# Altium footprint library транзисторы_полевые.PcbLib: 8 footprints
Each footprint in its own frame and in the unit in brackets; x right, y up, seen from the top. Pads: shape width x height; smd on the part's side, far side on the other; paste and mask are expansions set on the pad; w line width, h text height; cw(c..) or ccw(c..) is an arc to the next point about the centre after c.
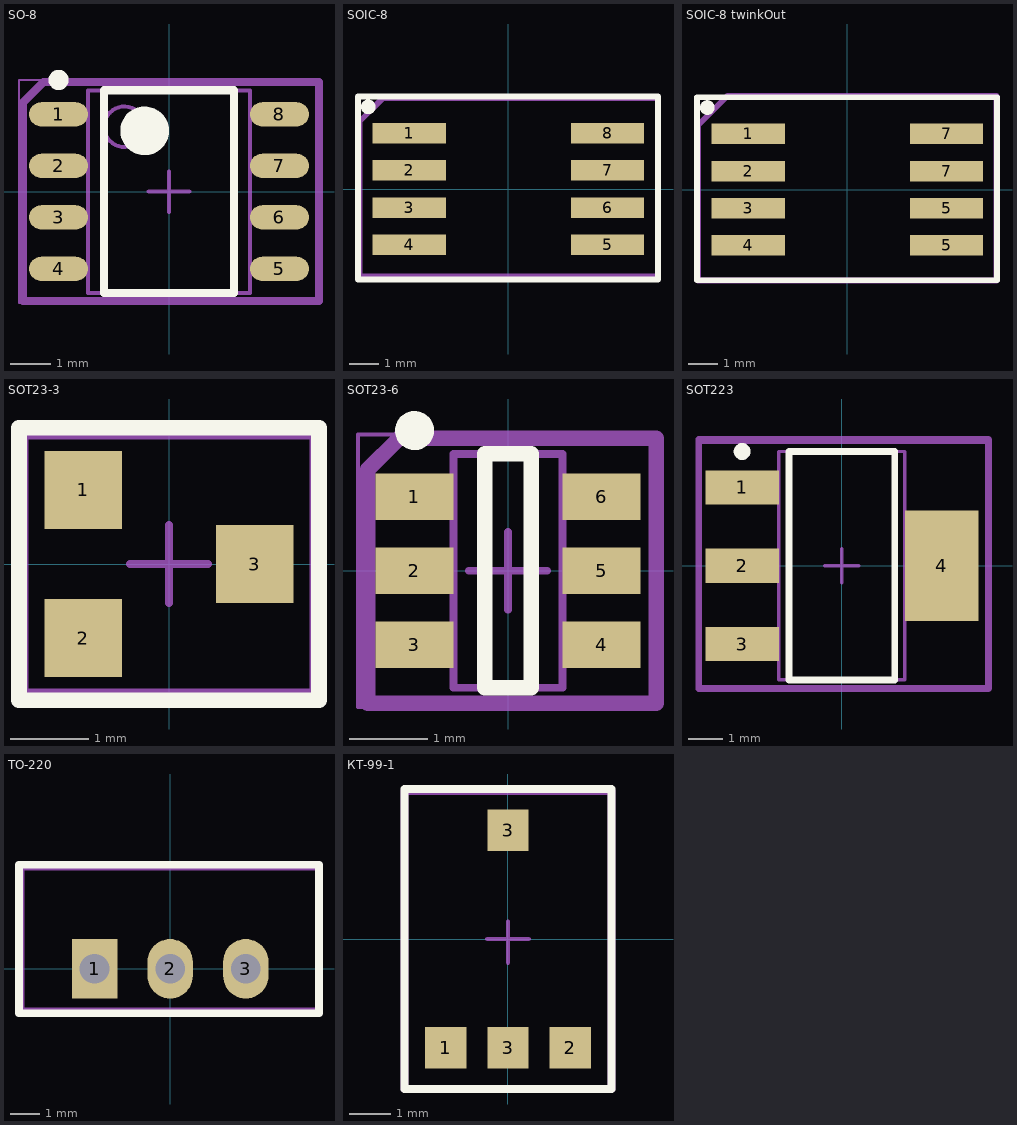
[diagram p0: the footprints below, top view; thin cyan lines are the x and y axes]

## SO-8 [mm]
height 1.75
pads (8):
  oval 1.45x0.6 smd: 1(-2.725,1.905) 2(-2.725,0.635) 3(-2.725,-0.635) 4(-2.725,-1.905) 5(2.725,-1.905) 6(2.725,-0.635) 7(2.725,0.635) 8(2.725,1.905)
Top Overlay:
  circle w0.6: c-0.6,1.5 r0.3
  circle w0.25: c-2.725,2.755 r0.125
  lines w0.2: -1.6,-2.5 1.6,-2.5 1.6,2.5 -1.6,2.5 -1.6,-2.5
Top Assy:
  lines w0.2: -3.6,-2.7 3.7,-2.7 3.7,2.7 -3.1,2.7 -3.6,2.2 -3.6,-2.7
  text ".Designator" at -3.1,-0.5 h1.52
Mechanical 13:
  circle w0.1: c-1.1,1.6 r0.5
  lines w0.1: -2,-2.5 2,-2.5 2,2.5 -2,2.5 -2,-2.5
Mechanical 15:
  lines w0.05: -3.7,-2.75 3.7,-2.75 3.7,2.75 -3.7,2.75 -3.7,-2.75
  lines w0.1: -0.5,0 0.5,0 ; 0,-0.5 0,0.5
3D body "SO-8.step": height 1.45, standoff 0, extent -2.889,-2.5 2.889,2.402

## SOIC-8 [mm] "Только для мосфет"
pads (8):
  rect 2.5x0.7 smd: 1(-3.387,1.905) 2(-3.387,0.635) 3(-3.387,-0.635) 4(-3.387,-1.905) 5(3.388,-1.905) 6(3.388,-0.635) 7(3.388,0.635) 8(3.388,1.905)
Top Overlay:
  circle w0.25: c-4.787,2.805 r0.125
  lines w0.2: -5.137,-3.095 -5.137,3.155 5.113,3.155 5.113,-3.095 -5.137,-3.095
Top Assy:
  lines w0.2: -5.087,-2.995 -5.087,2.305 -4.287,3.105 5.113,3.105 5.113,-2.995 -5.087,-2.995
  text ".Designator" at -3.587,-0.395 h1.52
3D body "SOIC-8.STEP": height 1.75, standoff -0.01, extent -4.062,-2.72 4.039,2.74

## SOIC-8 twinkOut [mm] "Только для мосфет"
pads (8):
  rect 2.5x0.7 smd: 1(-3.387,1.905) 2(-3.387,0.635) 3(-3.387,-0.635) 4(-3.387,-1.905) 5(3.388,-1.905) 5(3.388,-0.635) 7(3.388,0.635) 7(3.388,1.905)
Top Overlay:
  circle w0.25: c-4.787,2.805 r0.125
  lines w0.2: -5.137,-3.095 5.113,-3.095 5.113,3.155 -5.137,3.155 -5.137,-3.095
Top Assy:
  lines w0.2: -5.1,-3.1 -5.1,2.2 -4.1,3.2 5.1,3.2 5.1,-3.1 -5.1,-3.1
  text ".Designator" at -3.9,-0.5 h1.52
3D body "SOIC-8.STEP": height 1.75, standoff -0.01, extent -4.062,-2.72 4.039,2.74

## SOT23-3 [mm]
pads (3):
  rect 1x1 smd: 1(-1.1,0.95) 2(-1.1,-0.95) 3(1.1,0)
Top Overlay:
  lines w0.2: -1.925,-1.75 -1.925,1.75 1.925,1.75 1.925,-1.75 -1.925,-1.75
Top Assy:
  lines w0.2: -1.9,-1.7 1.9,-1.7 1.9,1.7 -1.9,1.7 -1.9,-1.7
  text ".Designator" at -1.5,-0.4 h1.52
Mechanical 15:
  lines w0.1: -0.5,0 0.5,0 ; 0,-0.5 0,0.5
3D body "SOT23-3.STEP": height 1.05, standoff -0.05, extent -1.25,-1.5 1.25,1.5

## SOT23-6 [mm] "SOT23, 6-Leads, Body 2,90x2,45mm, Pitch 0,95mm, IPC Medium Density"
height 1.1
pads (6):
  rect 1x0.6 smd: 1(-1.2,0.95) 2(-1.2,0) 3(-1.2,-0.95) 4(1.2,-0.95) 5(1.2,0) 6(1.2,0.95)
Top Overlay:
  circle w0.25: c-1.2,1.8 r0.125
  lines w0.2: -0.3,-1.5 0.3,-1.5 0.3,1.5 -0.3,1.5 -0.3,-1.5
Top Assy:
  lines w0.2: -1.8,-1.7 1.9,-1.7 1.9,1.7 -1.4,1.7 -1.8,1.3 -1.8,-1.7
  text ".Designator" at -1.4,-1.3 h1.52
Mechanical 13:
  lines w0.1: -0.7,-1.5 -0.7,1.5 0.7,1.5 0.7,-1.5 -0.7,-1.5
Mechanical 15:
  lines w0.05: -1.925,-1.75 -1.925,1.75 1.925,1.75 1.925,-1.75 -1.925,-1.75
  lines w0.1: -0.5,0 0.5,0 ; 0,-0.5 0,0.5
3D body "SOT23-6.step": height 1.1, standoff 0, extent -1.3,-1.5 1.3,1.5

## SOT223 [mm] "SOT223, 4-Leads, Body 6,50x7,00mm (avg), Pitch 2,30mm, IPC Medium Density"
height 1.8
pads (4):
  rect 2.15x1 smd: 1(-2.925,2.3) 2(-2.925,0) 3(-2.925,-2.3)
  rect 2.15x3.25 smd: 4(2.925,0)
Top Overlay:
  circle w0.25: c-2.925,3.35 r0.125
  lines w0.2: -1.55,-3.35 1.55,-3.35 1.55,3.35 -1.55,3.35 -1.55,-3.35
Top Assy:
  lines w0.2: -4.2,-3.6 -4.2,3.7 4.3,3.7 4.3,-3.6 -4.2,-3.6
  text ".Designator" at -2.9,0.1 h1.52
Mechanical 13:
  lines w0.1: -1.85,-3.35 1.85,-3.35 1.85,3.35 -1.85,3.35 -1.85,-3.35
Mechanical 15:
  lines w0.05: -4.25,-3.6 4.25,-3.6 4.25,3.6 -4.25,3.6 -4.25,-3.6
  lines w0.1: -0.5,0 0.5,0 ; 0,-0.5 0,0.5
3D body "SOT-223.STEP": height 1.7, standoff 0.02, extent -3.58,-3.25 3.38,3.25

## TO-220 [mm]
pads (3):
  rect 1.524x2 hole 1: 1(-2.54,0)
  oval 1.524x2 hole 1: 2(0,0) 3(2.54,0)
Top Overlay:
  lines w0.254: -5.08,-1.5 5,-1.5 5,3.5 -5.08,3.5 -5.08,-1.5
Top Assy:
  lines w0.2: -5,-1.4 -5,3.4 5,3.4 5,-1.4 -5,-1.4
  text ".Designator" at -4.3,0.9 h1.52
3D body "TO-220HS.step": height 18.54, standoff -3.81, extent -5.08,-1.397 5.08,3.175

## КТ-99-1 [mm]
pads (4):
  rect 1x1 smd: 1(-1.5,-2.625) 2(1.5,-2.625) 3(0,-2.625) 3(0,2.625)
Top Overlay:
  lines w0.2: -2.5,-3.625 2.5,-3.625 2.5,3.625 1.25,3.625 0,3.625 -1,3.625 -1.75,3.625 -2.5,3.625 -2.5,-3.625
Top Assy:
  lines w0.2: -2.5,-3.625 2.5,-3.625 2.5,3.575 -2.5,3.575 -2.5,-3.625
  text ".Designator" at -1.8,-0.125 h1.52
Mechanical 15:
  lines w0.1: -0.5,0 0.5,0 ; 0,-0.573 0,0.427
3D body "KT-99-1.STEP": height 1.94, standoff 0.01, extent -2.3,-2.55 2.3,2.7